# Altium schematic symbol library Resistors.SchLib: 5 symbols
Pins are listed as number, name and electrical type; pins without a type are passive.

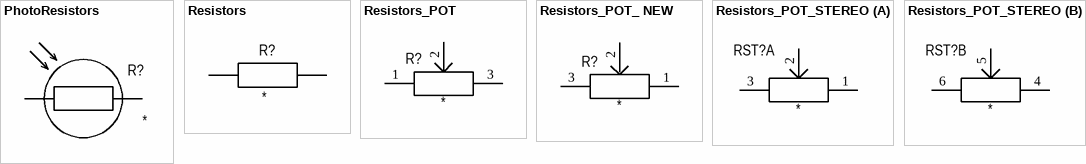
[diagram p0: symbols PhotoResistors to Resistors_POT_STEREO]

## PhotoResistors
designator R?
Value: *; Manufacture: *; Case: *; Model: *; HelpURL: *
footprint Photo
pins: 1, 2

## Resistors
designator R?
Value: *; Manufacture: *; Case: *; Model: *; HelpURL: *
footprint CF-25
footprint 1206
footprint 1206-BOTTOM
footprint Vintage
pins: 1, 2

## Resistors_POT
designator R?
Value: *; Manufacture: *; Case: *; Model: *; HelpURL: *
footprint R-0904N-L25KQ
footprint POT-CA9V
footprint POT-16K
footprint R-0904N-Knob15_7
footprint R-0904N-Knob10
pins: 1, 2, 3

## Resistors_POT_ NEW
designator R?
Value: *; Manufacture: *; Case: *; Model: *; HelpURL: *
footprint POT-13mmShaftHor
footprint R-0904N-Knob10Hole
footprint TRIMMER-3296W
footprint POT-CA9V
pins: 1, 2, 3

## Resistors_POT_STEREO
designator RST?
Value: *; Manufacture: *; Case: *; Model: *; HelpURL: *
footprint POT-13mmShaftHorStereo
part A pins: 1, 2, 3
part B pins: 4, 5, 6